# EAGLE library part 8PIN_2MM (library jason_eagle6)
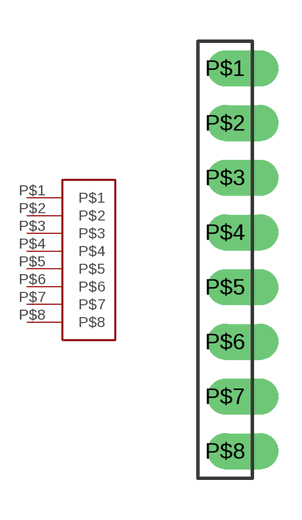
[diagram p46: symbol with the pads of 8SIL_2MM; footprint 8SIL_2MM]

Designator prefix -

## 8PIN_2MM  [8SIL_2MM]
P$1  P$1
P$2  P$2
P$3  P$3
P$4  P$4
P$5  P$5
P$6  P$6
P$7  P$7
P$8  P$8

## Footprint 8SIL_2MM (pad centres in mm)
drill 0.8 offset: P$1 0,6; P$2 0,4; P$3 0,2; P$4 0,0; P$5 0,-2; P$6 0,-4; P$7 0,-6; P$8 0,-8